# Altium footprint library mcc.PcbLib: 2 footprints
Each footprint in its own frame and in the unit in brackets; x right, y up, seen from the top. Pads: shape width x height; smd on the part's side, far side on the other; paste and mask are expansions set on the pad; w line width, h text height; cw(c..) or ccw(c..) is an arc to the next point about the centre after c.
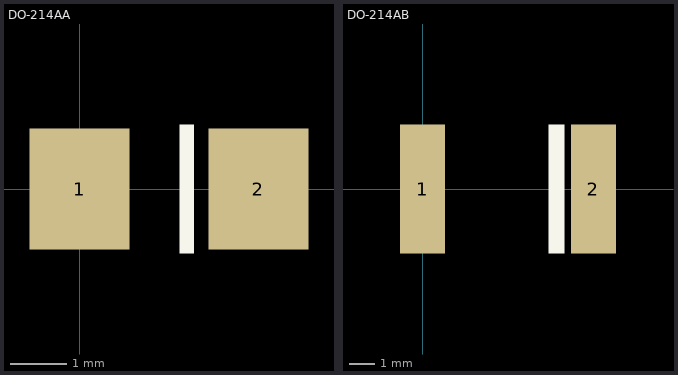
[diagram p0: the footprints below, top view; thin cyan lines are the x and y axes]

## DO-214AA [mil] "Silicone Rectififer Diode"
height 118.11
pads (2):
  rect 70x85 smd: 1(0,0) 2(125,0)
Top Overlay:
  rectangle: 70,-45 80,45

## DO-214AB [mil] "Silicone Rectififer Diode"
height 118.11
pads (2):
  rect 70x200 smd: 1(0,0) 2(265,0)
Top Overlay:
  rectangle: 195,-100 220,100